# Altium footprint library Sheye-Connector.PcbLib: 137 footprints (part 3 of 9)
Each footprint in its own frame and in the unit in brackets; x right, y up, seen from the top. Pads: shape width x height; smd on the part's side, far side on the other; paste and mask are expansions set on the pad; w line width, h text height; cw(c..) or ccw(c..) is an arc to the next point about the centre after c.
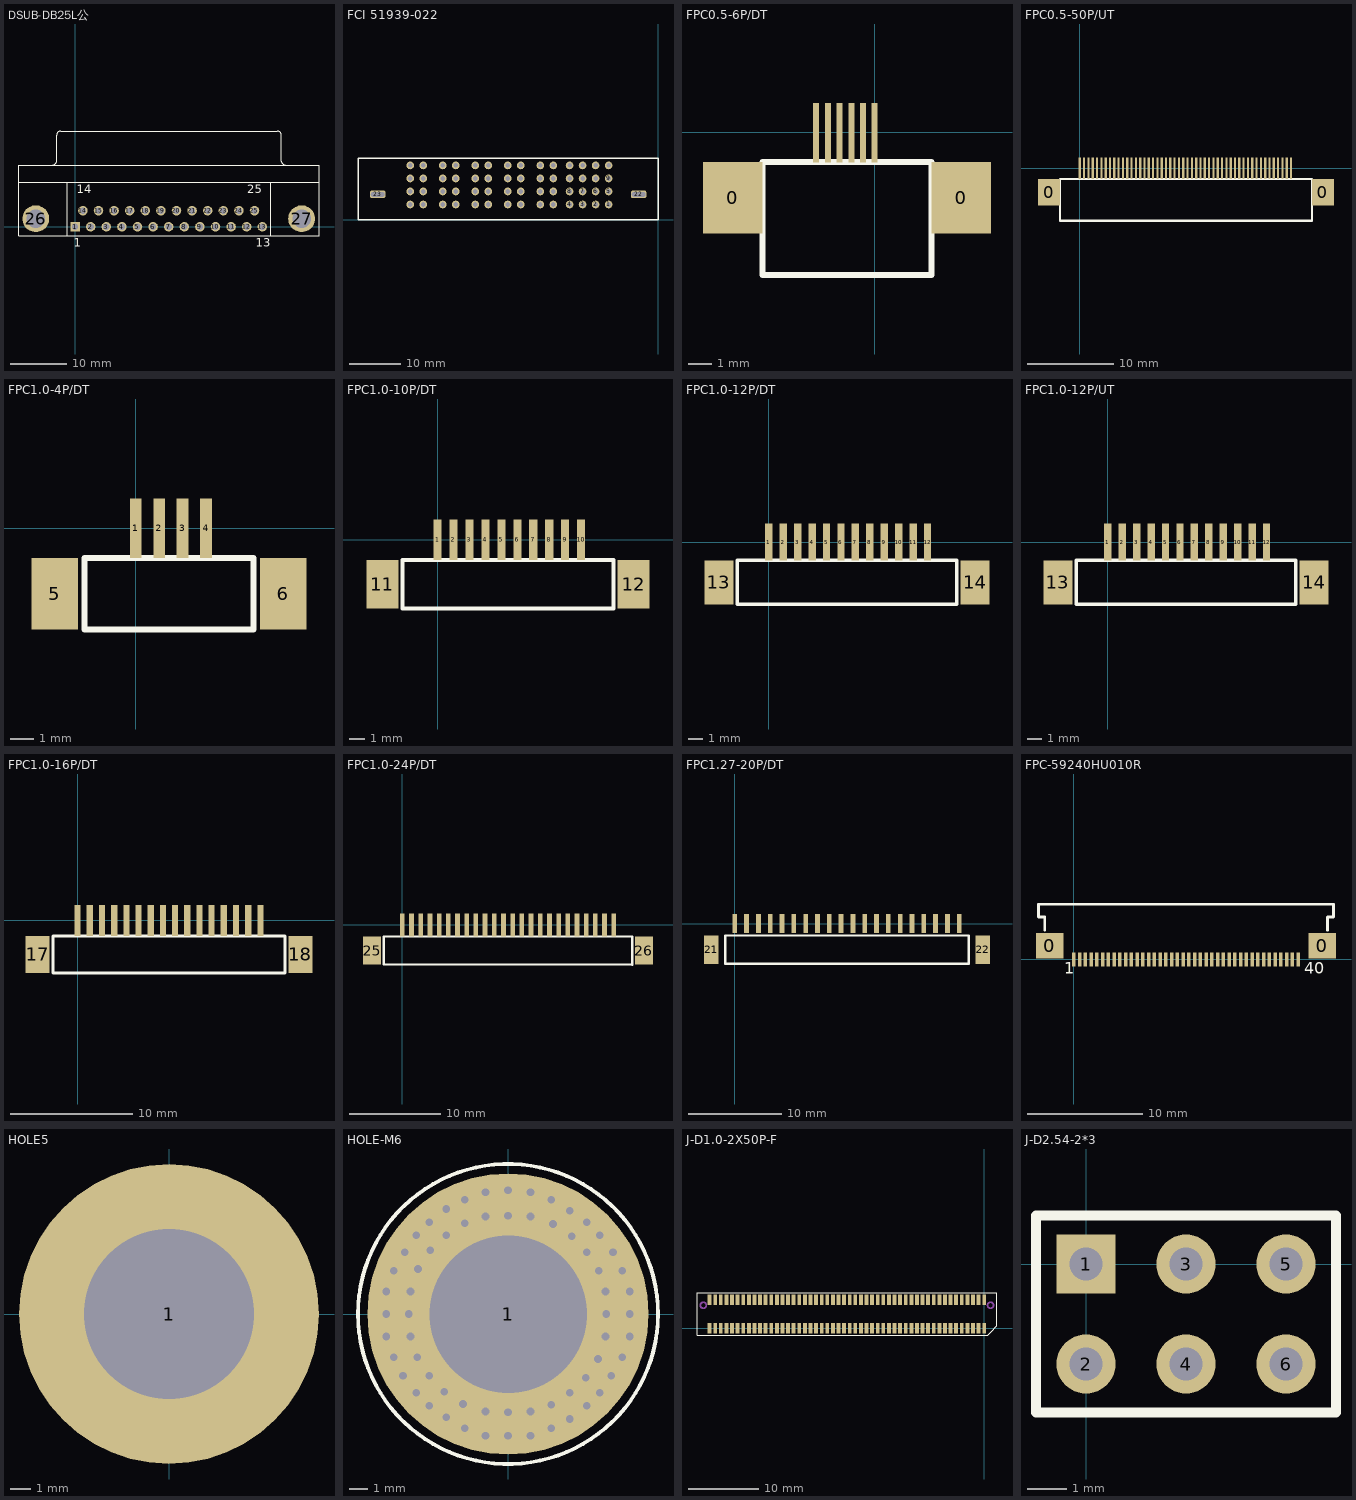
[diagram p2: the footprints below, top view; thin cyan lines are the x and y axes]

## DSUB-DB25L公 [mm] "Connector; D Subminiature; 25 Position; Right Angle; Pitch 1.385 mm"
height 12.93
pads (27):
  rect 1.69x1.69 hole 1.09: 1(0,0)
  round 1.69 hole 1.09: 2(2.761,0) 3(5.522,0) 4(8.283,0) 5(11.044,0) 6(13.805,0) 7(16.566,0) 8(19.327,0) 9(22.088,0) 10(24.849,0) 11(27.61,0) 12(30.371,0) 13(33.132,0) 14(1.381,2.84) 15(4.142,2.84) 16(6.903,2.84) 17(9.664,2.84) 18(12.424,2.84) 19(15.185,2.84) 20(17.946,2.84) 21(20.707,2.84) 22(23.469,2.84) 23(26.23,2.84) 24(28.991,2.84) 25(31.752,2.84)
  round 4.76 hole 3.26: 26(-6.96,1.42) 27(40.092,1.42)
Top Overlay:
  lines w0.2: -9.93,7.92 43.17,7.92 ; -3.975,10.925 ccw(c-3.975,11.62) -3.28,11.62 -3.28,16.22 ; -3.275,16.225 cw(c-2.58,16.225) -2.58,16.92 35.82,16.92 cw(c35.82,16.225) 36.515,16.225 ; -1.38,-1.58 -1.38,7.92 ; 34.62,-1.58 34.62,7.92 ; 36.52,16.22 36.52,11.62 ccw(c37.215,11.62) 37.215,10.925 ; -9.93,-1.58 43.17,-1.58 43.17,10.92 -9.93,10.92 -9.93,-1.58
  text "1" at -0.25,-3.555 h1.5
  text "13" at 32.007,-3.555 h1.5
  text "14" at 0.256,5.945 h1.5
  text "25" at 30.502,5.945 h1.5

## FCI 51939-022 [mm]
pads (58):
  round 1.5 hole 0.9: 1(-9.64,2.95) 2(-12.18,2.95) 3(-14.72,2.95) 4(-17.26,2.95) 5(-9.64,5.49) 6(-12.18,5.49) 7(-14.72,5.49) 8(-17.26,5.49) 9(-9.64,8.03) 10(-12.18,8.03) 11(-14.72,8.03) 12(-17.26,8.03) 13(-9.64,10.57) 14(-12.18,10.57) 15(-14.72,10.57) 16(-17.26,10.57) 17(-22.97,2.95) 17(-22.97,5.49) 17(-22.97,8.03) 17(-22.97,10.57) 17(-20.43,2.95) 17(-20.43,5.49) 17(-20.43,8.03) 17(-20.43,10.57) 18(-29.32,2.95) 18(-29.32,5.49) 18(-29.32,8.03) 18(-29.32,10.57) 18(-26.78,2.95) 18(-26.78,5.49) 18(-26.78,8.03) 18(-26.78,10.57) 19(-35.67,2.95) 19(-35.67,5.49) 19(-35.67,8.03) 19(-35.67,10.57) 19(-33.13,2.95) 19(-33.13,5.49) 19(-33.13,8.03) 19(-33.13,10.57) 20(-42.02,2.95) 20(-42.02,5.49) 20(-42.02,8.03) 20(-42.02,10.57) 20(-39.48,2.95) 20(-39.48,5.49) 20(-39.48,8.03) 20(-39.48,10.57) 21(-48.37,2.95) 21(-48.37,5.49) 21(-48.37,8.03) 21(-48.37,10.57) 21(-45.83,2.95) 21(-45.83,5.49) 21(-45.83,8.03) 21(-45.83,10.57)
  rrect50% 3x1.5 hole 0.9 slot 2.65 at 0 deg: 22(-3.77,4.925) 23(-54.71,4.925)
Top Overlay:
  lines w0.254: -58.56,0 0,0 0,11.94 -58.56,11.94 -58.56,0

## FPC0.5-6P/DT [mil]
pads (8):
  rect 100x120 smd: 0(-238.67,-109.79) 0(145.19,-109.79)
  rect 10x100 smd: 1(-0.19,-0.21) 2(-19.87,-0.21) 3(-39.56,-0.21) 4(-59.24,-0.21) 5(-78.93,-0.21) 6(-98.61,-0.21)
Top Overlay:
  lines w10: -188.67,-239.79 -188.67,-49.79 95.19,-49.79 95.19,-239.79 -188.67,-239.79

## FPC0.5-50P/UT [mil]
pads (52):
  rect 100x120 smd: 0(-139.81,-109.79) 0(1110.19,-109.79)
  rect 10x100 smd: 1(964.81,-0.21) 2(945.13,-0.21) 3(925.44,-0.21) 4(905.76,-0.21) 5(886.07,-0.21) 6(866.39,-0.21) 7(846.7,-0.21) 8(827.02,-0.21) 9(807.33,-0.21) 10(787.65,-0.21) 11(767.96,-0.21) 12(748.28,-0.21) 13(728.59,-0.21) 14(708.91,-0.21) 15(689.22,-0.21) 16(669.54,-0.21) 17(649.85,-0.21) 18(630.17,-0.21) 19(610.48,-0.21) 20(590.8,-0.21) 21(571.11,-0.21) 22(551.43,-0.21) 23(531.74,-0.21) 24(512.06,-0.21) 25(492.37,-0.21) 26(472.69,-0.21) 27(453,-0.21) 28(433.31,-0.21) 29(413.63,-0.21) 30(393.94,-0.21) 31(374.26,-0.21) 32(354.57,-0.21) 33(334.89,-0.21) 34(315.2,-0.21) 35(295.52,-0.21) 36(275.83,-0.21) 37(256.15,-0.21) 38(236.46,-0.21) 39(216.78,-0.21) 40(197.09,-0.21) 41(177.41,-0.21) 42(157.72,-0.21) 43(138.04,-0.21) 44(118.35,-0.21) 45(98.67,-0.21) 46(78.98,-0.21) 47(59.3,-0.21) 48(39.61,-0.21) 49(19.93,-0.21) 50(0,0)
Top Overlay:
  lines w10: -89.81,-239.79 -89.81,-49.79 1060.19,-49.79 1060.19,-239.79 -89.81,-239.79

## FPC1.0-4P/DT [mil]
pads (6):
  rect 20x100 smd: 1(0,0) 2(39.37,0) 3(78.74,0) 4(118.11,0)
  rect 78.74x120 smd: 5(-136.1,-110) 6(247.66,-110)
Top Overlay:
  lines w10: -86.1,-170 -86.1,-50 197.68,-50 197.68,-170 -86.1,-170
3D body: height 39.37, standoff 0, extent -86.1,-170 195,-55

## FPC1.0-10P/DT [mil]
pads (12):
  rect 20x100 smd: 1(0,0) 2(39.37,0) 3(78.74,0) 4(118.11,0) 5(157.48,0) 6(196.85,0) 7(236.22,0) 8(275.59,0) 9(314.96,0) 10(354.33,0)
  rect 78.74x120 smd: 11(-136.1,-110) 12(483.88,-110)
Top Overlay:
  lines w10: -86.1,-170 -86.1,-50 433.9,-50 433.9,-170 -86.1,-170
3D body: height 39.37, standoff 0, extent -86.1,-170 433.9,-55

## FPC1.0-12P/DT [mil]
pads (14):
  rect 20x100 smd: 1(0,0) 2(39.37,0) 3(78.74,0) 4(118.11,0) 5(157.48,0) 6(196.85,0) 7(236.22,0) 8(275.59,0) 9(314.96,0) 10(354.33,0) 11(393.7,0) 12(433.07,0)
  rect 78.74x120 smd: 13(-136.1,-110) 14(562.62,-110)
Top Overlay:
  lines w10: -86.1,-170 -86.1,-50 512.64,-50 512.64,-170 -86.1,-170
3D body: height 39.37, standoff 0, extent -86.1,-170 515,-55

## FPC1.0-12P/UT [mil]
pads (14):
  rect 20x100 smd: 1(0,0) 2(39.37,0) 3(78.74,0) 4(118.11,0) 5(157.48,0) 6(196.85,0) 7(236.22,0) 8(275.59,0) 9(314.96,0) 10(354.33,0) 11(393.7,0) 12(433.07,0)
  rect 78.74x120 smd: 13(-136.1,-110) 14(562.62,-110)
Top Overlay:
  lines w10: -86.1,-170 512.64,-170 512.64,-50 -86.1,-50 -86.1,-170
3D body: height 39.37, standoff 0, extent -86.1,-170 515,-55

## FPC1.0-16P/DT [mil]
pads (18):
  rect 20x100 smd: 1(0,0) 2(39.37,0) 3(78.74,0) 4(118.11,0) 5(157.48,0) 6(196.85,0) 7(236.22,0) 8(275.59,0) 9(314.96,0) 10(354.33,0) 11(393.7,0) 12(433.07,0) 13(472.44,0) 14(511.81,0) 15(551.18,0) 16(590.55,0)
  rect 78.74x120 smd: 17(-129.45,-110) 18(720.1,-110)
Top Overlay:
  lines w10: 670.1,-120 670.1,-100 ; -79.45,-170 670.1,-170 670.1,-50 -79.45,-50 -79.45,-170
3D body: height 39.37, standoff 0, extent -80,-170 665,-55

## FPC1.0-24P/DT [mil]
pads (26):
  rect 20x100 smd: 1(0,0) 2(39.37,0) 3(78.74,0) 4(118.11,0) 5(157.48,0) 6(196.85,0) 7(236.22,0) 8(275.59,0) 9(314.96,0) 10(354.33,0) 11(393.7,0) 12(433.07,0) 13(472.44,0) 14(511.81,0) 15(551.18,0) 16(590.55,0) 17(629.92,0) 18(669.29,0) 19(708.66,0) 20(748.03,0) 21(787.4,0) 22(826.77,0) 23(866.14,0) 24(905.51,0)
  rect 78.74x120 smd: 25(-130,-110) 26(1035,-110)
Top Overlay:
  lines w10: -80.14,-169.53 985,-170 985,-50 -80.14,-49.53 -80.14,-169.53
3D body: height 39.37, standoff 0, extent -80,-165 985,-50

## FPC1.27-20P/DT [mil]
pads (22):
  rect 20x80 smd: 1(0,0) 2(50,0) 3(100,0) 4(150,0) 5(200,0) 6(250,0) 7(300,0) 8(350,0) 9(400,0) 10(450,0) 11(500,0) 12(550,0) 13(600,0) 14(650,0) 15(700,0) 16(750,0) 17(800,0) 18(850,0) 19(900,0) 20(950,0)
  rect 60x120 smd: 21(-100,-110) 22(1050,-110)
Top Overlay:
  lines w10: -40,-170 -40,-50 990,-50 990,-170 -40,-170
3D body: height 39.37, standoff 0, extent -40,-170 990,-55

## FPC-59240HU010R [mm]
pads (42):
  rect 2.4x2.2 smd: 0(-2.1,1.2) 0(21.6,1.2)
  rect 0.3x1.2 smd: 1(0,0) 2(0.5,0) 3(1,0) 4(1.5,0) 5(2,0) 6(2.5,0) 7(3,0) 8(3.5,0) 9(4,0) 10(4.5,0) 11(5,0) 12(5.5,0) 13(6,0) 14(6.5,0) 15(7,0) 16(7.5,0) 17(8,0) 18(8.5,0) 19(9,0) 20(9.5,0) 21(10,0) 22(10.5,0) 23(11,0) 24(11.5,0) 25(12,0) 26(12.5,0) 27(13,0) 28(13.5,0) 29(14,0) 30(14.5,0) 31(15,0) 32(15.5,0) 33(16,0) 34(16.5,0) 35(17,0) 36(17.5,0) 37(18,0) 38(18.5,0) 39(19,0) 40(19.5,0)
Top Overlay:
  lines w0.254: -2.54,2.54 -2.54,3.7 -3.1,3.7 -3.1,4.8 22.6,4.8 22.6,3.7 22.047,3.7 22.047,2.54
  text "40" at 20.041,-1.245 h1.02
  text "1" at -0.864,-1.245 h1.02
3D body: height 1, standoff 0, extent -3.1,0.889 22.606,4.8

## HOLE5 [mm]
pads (1):
  round 15 hole 8.5: 1(0,0)

## HOLE-M6 [mm] "HOLE5"
pads (1):
  round 15 hole 8.4: 1(0,0)
via 1.2,-5.2 diameter 0.711 hole 0.406
via 2.3,-4.85 diameter 0.711 hole 0.406
via 3.3,-4.2 diameter 0.711 hole 0.406
via 4.15,-3.4 diameter 0.711 hole 0.406
via 4.8,-2.4 diameter 0.711 hole 0.406
via 1.2,-6.5 diameter 0.711 hole 0.406
via 2.3,-6.1 diameter 0.711 hole 0.406
via 3.3,-5.6 diameter 0.711 hole 0.406
via 4.2,-4.9 diameter 0.711 hole 0.406
via 4.9,-4.2 diameter 0.711 hole 0.406
via 5.5,-3.3 diameter 0.711 hole 0.406
via 6.1,-2.3 diameter 0.711 hole 0.406
via 5.2,-1.2 diameter 0.711 hole 0.406
via 6.5,-1.2 diameter 0.711 hole 0.406
via -5.2,-1.2 diameter 0.711 hole 0.406
via -4.85,-2.3 diameter 0.711 hole 0.406
via -4.2,-3.3 diameter 0.711 hole 0.406
via -3.4,-4.15 diameter 0.711 hole 0.406
via -2.4,-4.8 diameter 0.711 hole 0.406
via -6.5,-1.2 diameter 0.711 hole 0.406
via -6.1,-2.3 diameter 0.711 hole 0.406
via -5.6,-3.3 diameter 0.711 hole 0.406
via -4.9,-4.2 diameter 0.711 hole 0.406
via -4.2,-4.9 diameter 0.711 hole 0.406
via -3.3,-5.5 diameter 0.711 hole 0.406
via -2.3,-6.1 diameter 0.711 hole 0.406
via -1.2,-5.2 diameter 0.711 hole 0.406
via -1.2,-6.5 diameter 0.711 hole 0.406
via 5.2,1.2 diameter 0.711 hole 0.406
via 4.85,2.3 diameter 0.711 hole 0.406
via 4.2,3.3 diameter 0.711 hole 0.406
via 3.4,4.15 diameter 0.711 hole 0.406
via 2.4,4.8 diameter 0.711 hole 0.406
via 6.5,1.2 diameter 0.711 hole 0.406
via 6.1,2.3 diameter 0.711 hole 0.406
via 5.6,3.3 diameter 0.711 hole 0.406
via 4.9,4.2 diameter 0.711 hole 0.406
via 4.2,4.9 diameter 0.711 hole 0.406
via 3.3,5.5 diameter 0.711 hole 0.406
via 2.3,6.1 diameter 0.711 hole 0.406
via 1.2,5.2 diameter 0.711 hole 0.406
via 1.2,6.5 diameter 0.711 hole 0.406
via 0,6.6 diameter 0.711 hole 0.406
via 0,5.25 diameter 0.711 hole 0.406
via -6.5,1.2 diameter 0.711 hole 0.406
via -5.2,1.2 diameter 0.711 hole 0.406
via -6.1,2.3 diameter 0.711 hole 0.406
via -5.5,3.3 diameter 0.711 hole 0.406
via -4.9,4.2 diameter 0.711 hole 0.406
via -4.2,4.9 diameter 0.711 hole 0.406
via -3.3,5.6 diameter 0.711 hole 0.406
via -2.3,6.1 diameter 0.711 hole 0.406
via -1.2,6.5 diameter 0.711 hole 0.406
via -4.8,2.4 diameter 0.711 hole 0.406
via -4.15,3.4 diameter 0.711 hole 0.406
via -3.3,4.2 diameter 0.711 hole 0.406
via -2.3,4.85 diameter 0.711 hole 0.406
via -1.2,5.2 diameter 0.711 hole 0.406
via 6.5,0 diameter 0.711 hole 0.406
via 5.25,0 diameter 0.711 hole 0.406
via 0,-6.5 diameter 0.711 hole 0.406
via 0,-5.25 diameter 0.711 hole 0.406
via -6.5,0 diameter 0.711 hole 0.406
via -5.3,0 diameter 0.711 hole 0.406
Top Overlay:
  circle w0.203: c0,0 r8
3D body: height 10, standoff 0, extent -3.984,-3.937 3.984,4.047

## J-D1.0-2X50P-F [mm]
pads (100):
  rect 0.55x1.5 smd: 1(0,0) 2(0,4) 3(-0.8,0) 4(-0.8,4) 5(-1.6,0) 6(-1.6,4) 7(-2.4,0) 8(-2.4,4) 9(-3.2,0) 10(-3.2,4) 11(-4,0) 12(-4,4) 13(-4.8,0) 14(-4.8,4) 15(-5.6,0) 16(-5.6,4) 17(-6.4,0) 18(-6.4,4) 19(-7.2,0) 20(-7.2,4) 21(-8,0) 22(-8,4) 23(-8.8,0) 24(-8.8,4) 25(-9.6,0) 26(-9.6,4) 27(-10.4,0) 28(-10.4,4) 29(-11.2,0) 30(-11.2,4) 31(-12,0) 32(-12,4) 33(-12.8,0) 34(-12.8,4) 35(-13.6,0) 36(-13.6,4) 37(-14.4,0) 38(-14.4,4) 39(-15.2,0) 40(-15.2,4) 41(-16,0) 42(-16,4) 43(-16.8,0) 44(-16.8,4) 45(-17.6,0) 46(-17.6,4) 47(-18.4,0) 48(-18.4,4) 49(-19.2,0) 50(-19.2,4) 51(-20,0) 52(-20,4) 53(-20.8,0) 54(-20.8,4) 55(-21.6,0) 56(-21.6,4) 57(-22.4,0) 58(-22.4,4) 59(-23.2,0) 60(-23.2,4) 61(-24,0) 62(-24,4) 63(-24.8,0) 64(-24.8,4) 65(-25.6,0) 66(-25.6,4) 67(-26.4,0) 68(-26.4,4) 69(-27.2,0) 70(-27.2,4) 71(-28,0) 72(-28,4) 73(-28.8,0) 74(-28.8,4) 75(-29.6,0) 76(-29.6,4) 77(-30.4,0) 78(-30.4,4) 79(-31.2,0) 80(-31.2,4) 81(-32,0) 82(-32,4) 83(-32.8,0) 84(-32.8,4) 85(-33.6,0) 86(-33.6,4) 87(-34.4,0) 88(-34.4,4) 89(-35.2,0) 90(-35.2,4) 91(-36,0) 92(-36,4) 93(-36.8,0) 94(-36.8,4) 95(-37.6,0) 96(-37.6,4) 97(-38.4,0) 98(-38.4,4) 99(-39.2,0) 100(-39.2,4)
Top Overlay:
  lines w0.1: -41,5 1.829,5 ; -40.989,5 -40.989,1.2 -40.989,-1 0.5,-1 1,-0.5 ; 1.8,5 1.8,0.308 1.804,0.304 1,-0.5 ; 1,-0.5 1,-0.5
Mechanical 1:
  lines w0.254: -39.684,3.336 ccw(c-40.1,3.25) -39.679,3.309 ; 1.316,3.336 ccw(c0.9,3.25) 1.321,3.309

## J-D2.54-2*3 [mm]
pads (6):
  rect 1.5x1.5 hole 0.838: 1(0,0)
  round 1.5 hole 0.838: 2(0,-2.54) 3(2.54,0) 4(2.54,-2.54) 5(5.08,0) 6(5.08,-2.54)
Top Overlay:
  lines w0.254: -1.27,-3.77 6.35,-3.77 6.35,1.23 -1.27,1.23 -1.27,-3.77
3D body: height 2.54, standoff 0, extent -1.27,-3.817 6.477,1.263
3D body: height 10, standoff -4, extent 4.682,-2.939 5.479,-2.141
3D body: height 10, standoff -4, extent 2.142,-2.939 2.939,-2.141
3D body: height 10, standoff -4, extent -0.398,-2.939 0.399,-2.141
3D body: height 10, standoff -4, extent 4.682,-0.399 5.479,0.399
3D body: height 10, standoff -4, extent 2.142,-0.399 2.939,0.399
3D body: height 10, standoff -4, extent -0.398,-0.399 0.399,0.399